# EAGLE library part I-13069_MCP2221A-I/P (library 01)
Dual In Line / Socket
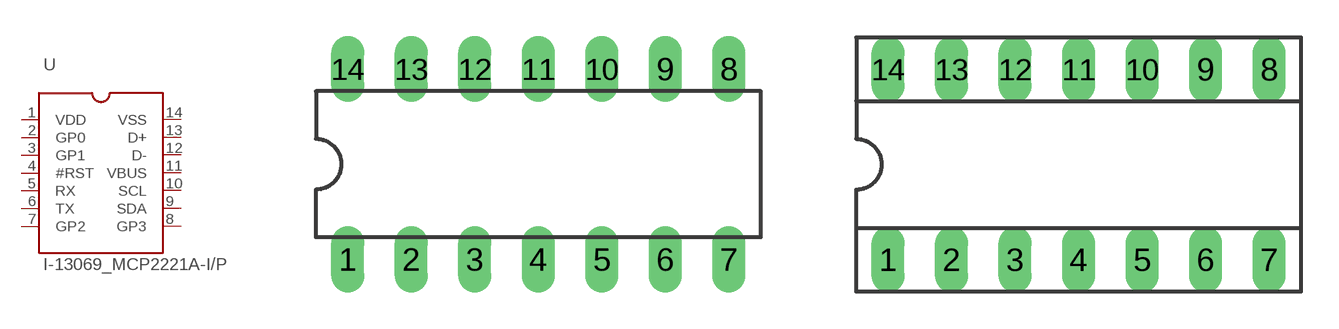
[diagram p1: symbol with the pads of DIL14; footprints DIL14, SOCKET-14]

Designator prefix U

## I-13069_MCP2221A-I/P  [DIL14]
1  VDD  pas
2  GP0  pas
3  GP1  pas
4  #RST  pas
5  RX  pas
6  TX  pas
7  GP2  pas
8  GP3  pas
9  SDA  pas
10  SCL  pas
11  VBUS  pas
12  D-  pas
13  D+  pas
14  VSS  pas

## I-13069_MCP2221A-I/PS  [SOCKET-14]
Pads as for DIL14

## Footprint DIL14 (pad centres in mm)
Dual In Line Package
drill 0.813 long: 1 -7.62,-3.81; 2 -5.08,-3.81; 3 -2.54,-3.81; 4 0,-3.81; 5 2.54,-3.81; 6 5.08,-3.81; 7 7.62,-3.81; 8 7.62,3.81; 9 5.08,3.81; 10 2.54,3.81; 11 0,3.81; 12 -2.54,3.81; 13 -5.08,3.81; 14 -7.62,3.81

## Footprint SOCKET-14 (pad centres in mm)
Dual In Line Socket
drill 0.813 long: 1 -7.62,-3.81; 2 -5.08,-3.81; 3 -2.54,-3.81; 4 0,-3.81; 5 2.54,-3.81; 6 5.08,-3.81; 7 7.62,-3.81; 8 7.62,3.81; 9 5.08,3.81; 10 2.54,3.81; 11 0,3.81; 12 -2.54,3.81; 13 -5.08,3.81; 14 -7.62,3.81